# Altium integrated library TI Logic Flip-Flop.IntLib: 904 symbols (part 3 of 21)
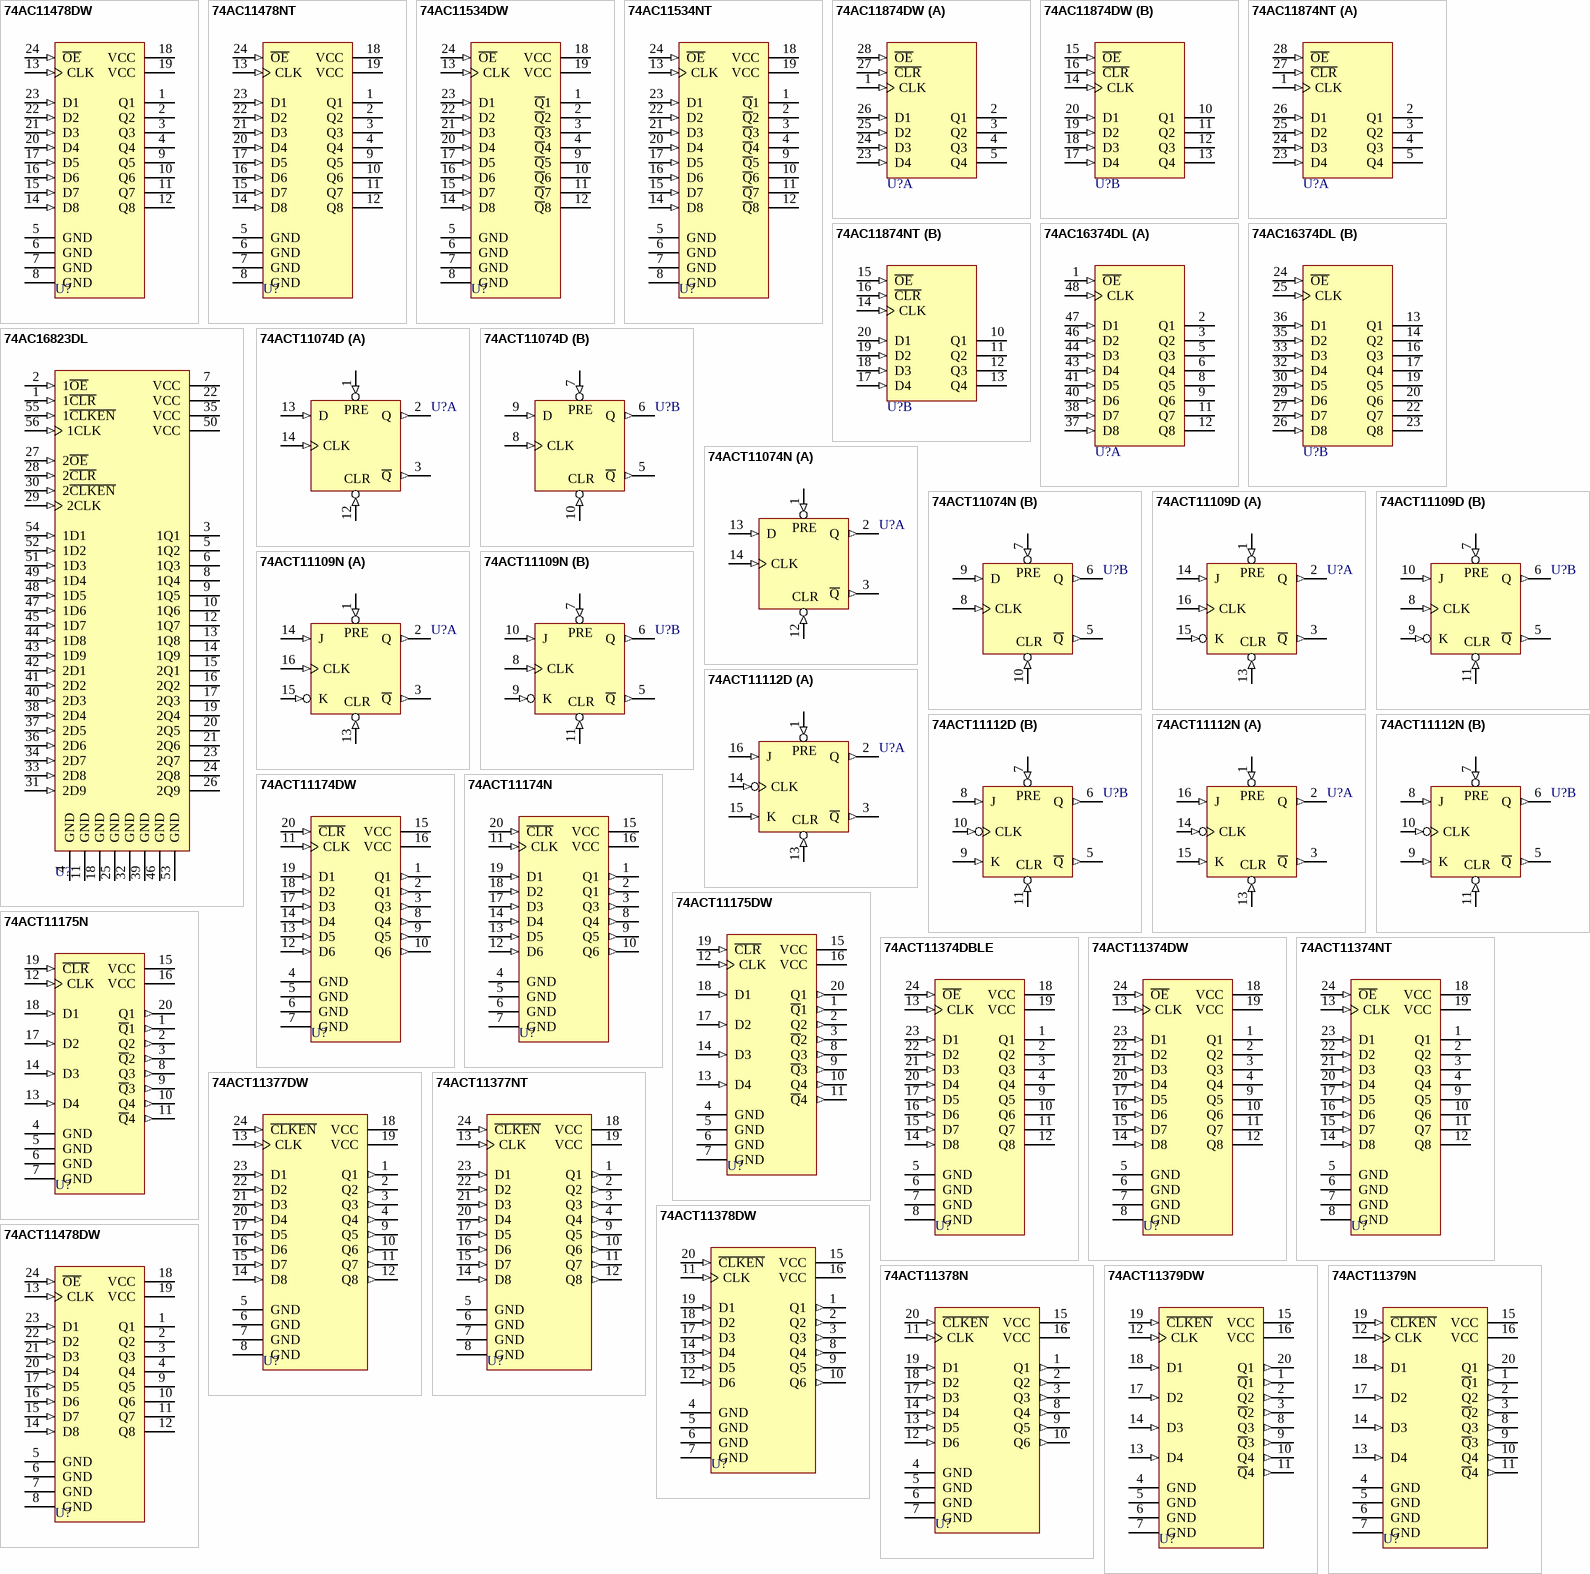
[diagram p37: symbols 74AC11478DW to 74ACT11478DW]

## 74ACT11174N
designator U?
HEX D-Type Flip-Flop with Clear; ComponentAvailability: Obsolete; Published: 8-Jun-2000; LatestRevisionDate: 04-Mar-2005; LatestRevisionNote: Stylized 3D Model Added.; DatasheetVersion: Apr-1993; PackageVersion: Oct-1995; PackageReference: N020; Publisher: Altium Limited; PackageDescription: DIP; 20 Leads; Row Spacing 7.62 mm; Pitch 2.54 mm; ComponentLink1Description: Manufacturer Link; ComponentLink1URL: http://www.ti.com/; ComponentLink2Description: Datasheet; ComponentLink2URL: http://www-s.ti.com/sc/ds/74act11174.pdf; ComponentLink3Description: Discontinuation Notice; ComponentLink3URL: http://focus.ti.com/docs/prod/folders/print/74act11174.html
footprint N020 (DIP; 20 Leads; Row Spacing 7.62 mm; Pitch 2.54 mm)
3D model J020 (DIP; 20 Leads; Row Spacing 7.62 mm; Pitch 2.54 mm)
signal-integrity model 74ACT11174N
pins: 1 Q1 (out), 2 Q1 (out), 3 Q3 (out), 4 GND (power), 5 GND (power), 6 GND (power), 7 GND (power), 8 Q4 (out), 9 Q5 (out), 10 Q6 (out), 11 CLK (in), 12 D6 (in), 13 D5 (in), 14 D4 (in), 15 VCC (power), 16 VCC (power), 17 D3 (in), 18 D2 (in), 19 D1 (in), 20 ~{CLR} (in)

## 74ACT11175DW
designator U?
Quadruple D-Type Flip-Flop with Clear; ComponentAvailability: Obsolete; Published: 8-Jun-2000; LatestRevisionDate: 13-Apr-2006; LatestRevisionNote: IPC-7351 Footprint Added.; DatasheetVersion: Apr-1993; PackageVersion: Mar-2000; PackageReference: DW020; Publisher: Altium Limited; PackageDescription: 20-Pin Plastic Small Outline Integrated Circuit 1.27 mm Pitch; Code_JEDEC: MS-013; Code_IPC: SOIC127P1030-20; ComponentLink1Description: Manufacturer Link; ComponentLink1URL: http://www.ti.com/; ComponentLink2Description: Datasheet; ComponentLink2URL: http://www-s.ti.com/sc/ds/74act11175.pdf; ComponentLink3Description: Discontinuation Notice; ComponentLink3URL: http://focus.ti.com/docs/prod/folders/print/74act11175.html
footprint DW020_N (SOIC, 20-Leads, Body 12.8x7.5mm, Pitch 1.27mm, IPC Medium Density)
footprint DW020_L (SOIC, 20-Leads, Body 12.8x7.5mm, Pitch 1.27mm, IPC High Density)
footprint DW020_M (SOIC, 20-Leads, Body 12.8x7.5mm, Pitch 1.27mm, IPC Low Density)
3D model DW020 (20-Pin Plastic Small Outline Integrated Circuit 1.27 mm Pitch)
signal-integrity model 74ACT11175DW
pins: 1 ~{Q}1 (out), 2 Q2 (out), 3 ~{Q}2 (out), 4 GND (power), 5 GND (power), 6 GND (power), 7 GND (power), 8 Q3 (out), 9 ~{Q}3 (out), 10 Q4 (out), 11 ~{Q}4 (out), 12 CLK (in), 13 D4 (in), 14 D3 (in), 15 VCC (power), 16 VCC (power), 17 D2 (in), 18 D1 (in), 19 ~{CLR} (in), 20 Q1 (out)

## 74ACT11175N
designator U?
Quadruple D-Type Flip-Flop with Clear; ComponentAvailability: Obsolete; Published: 8-Jun-2000; LatestRevisionDate: 04-Mar-2005; LatestRevisionNote: Stylized 3D Model Added.; DatasheetVersion: Apr-1993; PackageVersion: Oct-1995; PackageReference: N020; Publisher: Altium Limited; PackageDescription: DIP; 20 Leads; Row Spacing 7.62 mm; Pitch 2.54 mm; ComponentLink1Description: Manufacturer Link; ComponentLink1URL: http://www.ti.com/; ComponentLink2Description: Datasheet; ComponentLink2URL: http://www-s.ti.com/sc/ds/74act11175.pdf; ComponentLink3Description: Discontinuation Notice; ComponentLink3URL: http://focus.ti.com/docs/prod/folders/print/74act11175.html
footprint N020 (DIP; 20 Leads; Row Spacing 7.62 mm; Pitch 2.54 mm)
3D model J020 (DIP; 20 Leads; Row Spacing 7.62 mm; Pitch 2.54 mm)
signal-integrity model 74ACT11175N
pins: 1 ~{Q}1 (out), 2 Q2 (out), 3 ~{Q}2 (out), 4 GND (power), 5 GND (power), 6 GND (power), 7 GND (power), 8 Q3 (out), 9 ~{Q}3 (out), 10 Q4 (out), 11 ~{Q}4 (out), 12 CLK (in), 13 D4 (in), 14 D3 (in), 15 VCC (power), 16 VCC (power), 17 D2 (in), 18 D1 (in), 19 ~{CLR} (in), 20 Q1 (out)

## 74ACT11374DBLE
designator U?
Octal Edge-Triggered D-Type Flip-Flop with 3-State Outputs; ComponentAvailability: Obsolete; Published: 8-Jun-2000; LatestRevisionDate: 04-Mar-2005; LatestRevisionNote: Stylized 3D Model Added.; DatasheetVersion: Apr-1996; PackageVersion: May-1999; PackageReference: DB024; Publisher: Altium Limited; PackageDescription: SSOP, Plastic; 24 Leads; Body Width 5.3 mm; Pitch 0.65 mm; Code_JEDEC: MO-150-AG; ComponentLink1Description: Manufacturer Link; ComponentLink1URL: http://www.ti.com/; ComponentLink2Description: Datasheet; ComponentLink2URL: http://www-s.ti.com/sc/ds/74act11374.pdf
footprint DB024 (SSOP, Plastic; 24 Leads; Body Width 5.3 mm; Pitch 0.65 mm)
3D model DB024 (SSOP, Plastic; 24 Leads; Body Width 5.3 mm; Pitch 0.65 mm)
signal-integrity model 74ACT11374DBLE
pins: 1 Q1 (hiz), 2 Q2 (hiz), 3 Q3 (hiz), 4 Q4 (hiz), 5 GND (power), 6 GND (power), 7 GND (power), 8 GND (power), 9 Q5 (hiz), 10 Q6 (hiz), 11 Q7 (hiz), 12 Q8 (hiz), 13 CLK (in), 14 D8 (in), 15 D7 (in), 16 D6 (in), 17 D5 (in), 18 VCC (power), 19 VCC (power), 20 D4 (in), 21 D3 (in), 22 D2 (in), 23 D1 (in), 24 ~{OE} (in)

## 74ACT11374DW
designator U?
Octal Edge-Triggered D-Type Flip-Flop with 3-State Outputs; Published: 8-Jun-2000; LatestRevisionDate: 13-Apr-2006; LatestRevisionNote: IPC-7351 Footprint Added.; DatasheetVersion: Apr-1996; PackageVersion: Mar-2000; PackageReference: DW024; Publisher: Altium Limited; PackageDescription: 24-Pin Plastic Small Outline Integrated Circuit 1.27 mm Pitch; Code_JEDEC: MS-013; ComponentLink1Description: Manufacturer Link; ComponentLink1URL: http://www.ti.com/; ComponentLink2Description: Datasheet; ComponentLink2URL: http://www-s.ti.com/sc/ds/74act11374.pdf
footprint DW024_N (SOIC, 24-Leads, Body 15.4x7.5mm, Pitch 1.27mm, IPC Medium Density)
footprint DW024_L (SOIC, 24-Leads, Body 15.4x7.5mm, Pitch 1.27mm, IPC High Density)
footprint DW024_M (SOIC, 24-Leads, Body 15.4x7.5mm, Pitch 1.27mm, IPC Low Density)
3D model DW024 (24-Pin Plastic Small Outline Integrated Circuit 1.27 mm Pitch)
signal-integrity model 74ACT11374DW
pins: 1 Q1 (hiz), 2 Q2 (hiz), 3 Q3 (hiz), 4 Q4 (hiz), 5 GND (power), 6 GND (power), 7 GND (power), 8 GND (power), 9 Q5 (hiz), 10 Q6 (hiz), 11 Q7 (hiz), 12 Q8 (hiz), 13 CLK (in), 14 D8 (in), 15 D7 (in), 16 D6 (in), 17 D5 (in), 18 VCC (power), 19 VCC (power), 20 D4 (in), 21 D3 (in), 22 D2 (in), 23 D1 (in), 24 ~{OE} (in)

## 74ACT11374NT
designator U?
Octal Edge-Triggered D-Type Flip-Flop with 3-State Outputs; Published: 8-Jun-2000; LatestRevisionDate: 04-Mar-2005; LatestRevisionNote: Stylized 3D Model Added.; DatasheetVersion: Apr-1996; PackageVersion: Oct-1994; PackageReference: NT024; Publisher: Altium Limited; PackageDescription: DIP; 24 Leads; Row Spacing 7.62 mm; Pitch 2.54 mm; Code_JEDEC: MS-001-AF; ComponentLink1Description: Manufacturer Link; ComponentLink1URL: http://www.ti.com/; ComponentLink2Description: Datasheet; ComponentLink2URL: http://www-s.ti.com/sc/ds/74act11374.pdf
footprint NT024 (DIP; 24 Leads; Row Spacing 7.62 mm; Pitch 2.54 mm)
3D model JT024 (DIP; 24 Leads; Row Spacing 7.62 mm; Pitch 2.54 mm)
signal-integrity model 74ACT11374NT
pins: 1 Q1 (hiz), 2 Q2 (hiz), 3 Q3 (hiz), 4 Q4 (hiz), 5 GND (power), 6 GND (power), 7 GND (power), 8 GND (power), 9 Q5 (hiz), 10 Q6 (hiz), 11 Q7 (hiz), 12 Q8 (hiz), 13 CLK (in), 14 D8 (in), 15 D7 (in), 16 D6 (in), 17 D5 (in), 18 VCC (power), 19 VCC (power), 20 D4 (in), 21 D3 (in), 22 D2 (in), 23 D1 (in), 24 ~{OE} (in)

## 74ACT11377DW
designator U?
Octal D-Type Flip-Flop with Clock Enable; ComponentAvailability: Obsolete; Published: 8-Jun-2000; LatestRevisionDate: 13-Apr-2006; LatestRevisionNote: IPC-7351 Footprint Added.; DatasheetVersion: Apr-1993; PackageVersion: Mar-2000; PackageReference: DW024; Publisher: Altium Limited; PackageDescription: 24-Pin Plastic Small Outline Integrated Circuit 1.27 mm Pitch; Code_JEDEC: MS-013; ComponentLink1Description: Manufacturer Link; ComponentLink1URL: http://www.ti.com/; ComponentLink2Description: Datasheet; ComponentLink2URL: http://www-s.ti.com/sc/ds/74act11377.pdf; ComponentLink3Description: Discontinuation Notice; ComponentLink3URL: http://focus.ti.com/docs/prod/folders/print/74act11377.html
footprint DW024_N (SOIC, 24-Leads, Body 15.4x7.5mm, Pitch 1.27mm, IPC Medium Density)
footprint DW024_L (SOIC, 24-Leads, Body 15.4x7.5mm, Pitch 1.27mm, IPC High Density)
footprint DW024_M (SOIC, 24-Leads, Body 15.4x7.5mm, Pitch 1.27mm, IPC Low Density)
3D model DW024 (24-Pin Plastic Small Outline Integrated Circuit 1.27 mm Pitch)
signal-integrity model 74ACT11377DW
pins: 1 Q1 (out), 2 Q2 (out), 3 Q3 (out), 4 Q4 (out), 5 GND (power), 6 GND (power), 7 GND (power), 8 GND (power), 9 Q5 (out), 10 Q6 (out), 11 Q7 (out), 12 Q8 (out), 13 CLK (in), 14 D8 (in), 15 D7 (in), 16 D6 (in), 17 D5 (in), 18 VCC (power), 19 VCC (power), 20 D4 (in), 21 D3 (in), 22 D2 (in), 23 D1 (in), 24 ~{CLKEN} (in)

## 74ACT11377NT
designator U?
Octal D-Type Flip-Flop with Clock Enable; ComponentAvailability: Obsolete; Published: 8-Jun-2000; LatestRevisionDate: 04-Mar-2005; LatestRevisionNote: Stylized 3D Model Added.; DatasheetVersion: Apr-1993; PackageVersion: Oct-1994; PackageReference: NT024; Publisher: Altium Limited; PackageDescription: DIP; 24 Leads; Row Spacing 7.62 mm; Pitch 2.54 mm; Code_JEDEC: MS-001-AF; ComponentLink1Description: Manufacturer Link; ComponentLink1URL: http://www.ti.com/; ComponentLink2Description: Datasheet; ComponentLink2URL: http://www-s.ti.com/sc/ds/74act11377.pdf; ComponentLink3Description: Discontinuation Notice; ComponentLink3URL: http://focus.ti.com/docs/prod/folders/print/74act11377.html
footprint NT024 (DIP; 24 Leads; Row Spacing 7.62 mm; Pitch 2.54 mm)
3D model JT024 (DIP; 24 Leads; Row Spacing 7.62 mm; Pitch 2.54 mm)
signal-integrity model 74ACT11377NT
pins: 1 Q1 (out), 2 Q2 (out), 3 Q3 (out), 4 Q4 (out), 5 GND (power), 6 GND (power), 7 GND (power), 8 GND (power), 9 Q5 (out), 10 Q6 (out), 11 Q7 (out), 12 Q8 (out), 13 CLK (in), 14 D8 (in), 15 D7 (in), 16 D6 (in), 17 D5 (in), 18 VCC (power), 19 VCC (power), 20 D4 (in), 21 D3 (in), 22 D2 (in), 23 D1 (in), 24 ~{CLKEN} (in)

## 74ACT11378DW
designator U?
Hex D-Type Flip-Flop with Clock Enable; ComponentAvailability: Obsolete; Published: 8-Jun-2000; LatestRevisionDate: 13-Apr-2006; LatestRevisionNote: IPC-7351 Footprint Added.; DatasheetVersion: Apr-1993; PackageVersion: Mar-2000; PackageReference: DW020; Publisher: Altium Limited; PackageDescription: 20-Pin Plastic Small Outline Integrated Circuit 1.27 mm Pitch; Code_JEDEC: MS-013; Code_IPC: SOIC127P1030-20; ComponentLink1Description: Manufacturer Link; ComponentLink1URL: http://www.ti.com/; ComponentLink2Description: Datasheet; ComponentLink2URL: http://www-s.ti.com/sc/ds/74act11378.pdf
footprint DW020_N (SOIC, 20-Leads, Body 12.8x7.5mm, Pitch 1.27mm, IPC Medium Density)
footprint DW020_L (SOIC, 20-Leads, Body 12.8x7.5mm, Pitch 1.27mm, IPC High Density)
footprint DW020_M (SOIC, 20-Leads, Body 12.8x7.5mm, Pitch 1.27mm, IPC Low Density)
3D model DW020 (20-Pin Plastic Small Outline Integrated Circuit 1.27 mm Pitch)
signal-integrity model 74ACT11378DW
pins: 1 Q1 (out), 2 Q2 (out), 3 Q3 (out), 4 GND (power), 5 GND (power), 6 GND (power), 7 GND (power), 8 Q4 (out), 9 Q5 (out), 10 Q6 (out), 11 CLK (in), 12 D6 (in), 13 D5 (in), 14 D4 (in), 15 VCC (power), 16 VCC (power), 17 D3 (in), 18 D2 (in), 19 D1 (in), 20 ~{CLKEN} (in)

## 74ACT11378N
designator U?
Hex D-Type Flip-Flop with Clock Enable; ComponentAvailability: Obsolete; Published: 8-Jun-2000; LatestRevisionDate: 04-Mar-2005; LatestRevisionNote: Stylized 3D Model Added.; DatasheetVersion: Apr-1993; PackageVersion: Oct-1995; PackageReference: N020; Publisher: Altium Limited; PackageDescription: DIP; 20 Leads; Row Spacing 7.62 mm; Pitch 2.54 mm; ComponentLink1Description: Manufacturer Link; ComponentLink1URL: http://www.ti.com/; ComponentLink2Description: Datasheet; ComponentLink2URL: http://www-s.ti.com/sc/ds/74act11378.pdf
footprint N020 (DIP; 20 Leads; Row Spacing 7.62 mm; Pitch 2.54 mm)
3D model J020 (DIP; 20 Leads; Row Spacing 7.62 mm; Pitch 2.54 mm)
signal-integrity model 74ACT11378N
pins: 1 Q1 (out), 2 Q2 (out), 3 Q3 (out), 4 GND (power), 5 GND (power), 6 GND (power), 7 GND (power), 8 Q4 (out), 9 Q5 (out), 10 Q6 (out), 11 CLK (in), 12 D6 (in), 13 D5 (in), 14 D4 (in), 15 VCC (power), 16 VCC (power), 17 D3 (in), 18 D2 (in), 19 D1 (in), 20 ~{CLKEN} (in)

## 74ACT11379DW
designator U?
Quadruple D-Type Flip-Flop with Clock Enable; ComponentAvailability: Obsolete; Published: 8-Jun-2000; LatestRevisionDate: 13-Apr-2006; LatestRevisionNote: IPC-7351 Footprint Added.; DatasheetVersion: Apr-1993; PackageVersion: Mar-2000; PackageReference: DW020; Publisher: Altium Limited; PackageDescription: 20-Pin Plastic Small Outline Integrated Circuit 1.27 mm Pitch; Code_JEDEC: MS-013; Code_IPC: SOIC127P1030-20; ComponentLink1Description: Manufacturer Link; ComponentLink1URL: http://www.ti.com/; ComponentLink2Description: Datasheet; ComponentLink2URL: http://www-s.ti.com/sc/ds/74act11379.pdf
footprint DW020_N (SOIC, 20-Leads, Body 12.8x7.5mm, Pitch 1.27mm, IPC Medium Density)
footprint DW020_L (SOIC, 20-Leads, Body 12.8x7.5mm, Pitch 1.27mm, IPC High Density)
footprint DW020_M (SOIC, 20-Leads, Body 12.8x7.5mm, Pitch 1.27mm, IPC Low Density)
3D model DW020 (20-Pin Plastic Small Outline Integrated Circuit 1.27 mm Pitch)
signal-integrity model 74ACT11379DW
pins: 1 ~{Q}1 (out), 2 Q2 (out), 3 ~{Q}2 (out), 4 GND (power), 5 GND (power), 6 GND (power), 7 GND (power), 8 Q3 (out), 9 ~{Q}3 (out), 10 Q4 (out), 11 ~{Q}4 (out), 12 CLK (in), 13 D4 (in), 14 D3 (in), 15 VCC (power), 16 VCC (power), 17 D2 (in), 18 D1 (in), 19 ~{CLKEN} (in), 20 Q1 (out)

## 74ACT11379N
designator U?
Quadruple D-Type Flip-Flop with Clock Enable; ComponentAvailability: Obsolete; Published: 8-Jun-2000; LatestRevisionDate: 04-Mar-2005; LatestRevisionNote: Stylized 3D Model Added.; DatasheetVersion: Apr-1993; PackageVersion: Oct-1995; PackageReference: N020; Publisher: Altium Limited; PackageDescription: DIP; 20 Leads; Row Spacing 7.62 mm; Pitch 2.54 mm; ComponentLink1Description: Manufacturer Link; ComponentLink1URL: http://www.ti.com/; ComponentLink2Description: Datasheet; ComponentLink2URL: http://www-s.ti.com/sc/ds/74act11379.pdf
footprint N020 (DIP; 20 Leads; Row Spacing 7.62 mm; Pitch 2.54 mm)
3D model J020 (DIP; 20 Leads; Row Spacing 7.62 mm; Pitch 2.54 mm)
signal-integrity model 74ACT11379N
pins: 1 ~{Q}1 (out), 2 Q2 (out), 3 ~{Q}2 (out), 4 GND (power), 5 GND (power), 6 GND (power), 7 GND (power), 8 Q3 (out), 9 ~{Q}3 (out), 10 Q4 (out), 11 ~{Q}4 (out), 12 CLK (in), 13 D4 (in), 14 D3 (in), 15 VCC (power), 16 VCC (power), 17 D2 (in), 18 D1 (in), 19 ~{CLKEN} (in), 20 Q1 (out)

## 74ACT11478DW
designator U?
Metastable-Resistant Octal D-Type Dual-Rank Flip-Flop with 3-State Outputs; ComponentAvailability: Obsolete; Published: 8-Jun-2000; LatestRevisionDate: 13-Apr-2006; LatestRevisionNote: IPC-7351 Footprint Added.; DatasheetVersion: Apr-1993; PackageVersion: Mar-2000; PackageReference: DW024; Publisher: Altium Limited; PackageDescription: 24-Pin Plastic Small Outline Integrated Circuit 1.27 mm Pitch; Code_JEDEC: MS-013; ComponentLink1Description: Manufacturer Link; ComponentLink1URL: http://www.ti.com/; ComponentLink2Description: Datasheet; ComponentLink2URL: http://www-s.ti.com/sc/ds/74act11478.pdf
footprint DW024_N (SOIC, 24-Leads, Body 15.4x7.5mm, Pitch 1.27mm, IPC Medium Density)
footprint DW024_L (SOIC, 24-Leads, Body 15.4x7.5mm, Pitch 1.27mm, IPC High Density)
footprint DW024_M (SOIC, 24-Leads, Body 15.4x7.5mm, Pitch 1.27mm, IPC Low Density)
3D model DW024 (24-Pin Plastic Small Outline Integrated Circuit 1.27 mm Pitch)
signal-integrity model 74ACT11478DW
pins: 1 Q1 (hiz), 2 Q2 (hiz), 3 Q3 (hiz), 4 Q4 (hiz), 5 GND (power), 6 GND (power), 7 GND (power), 8 GND (power), 9 Q5 (hiz), 10 Q6 (hiz), 11 Q7 (hiz), 12 Q8 (hiz), 13 CLK (in), 14 D8 (in), 15 D7 (in), 16 D6 (in), 17 D5 (in), 18 VCC (power), 19 VCC (power), 20 D4 (in), 21 D3 (in), 22 D2 (in), 23 D1 (in), 24 ~{OE} (in)

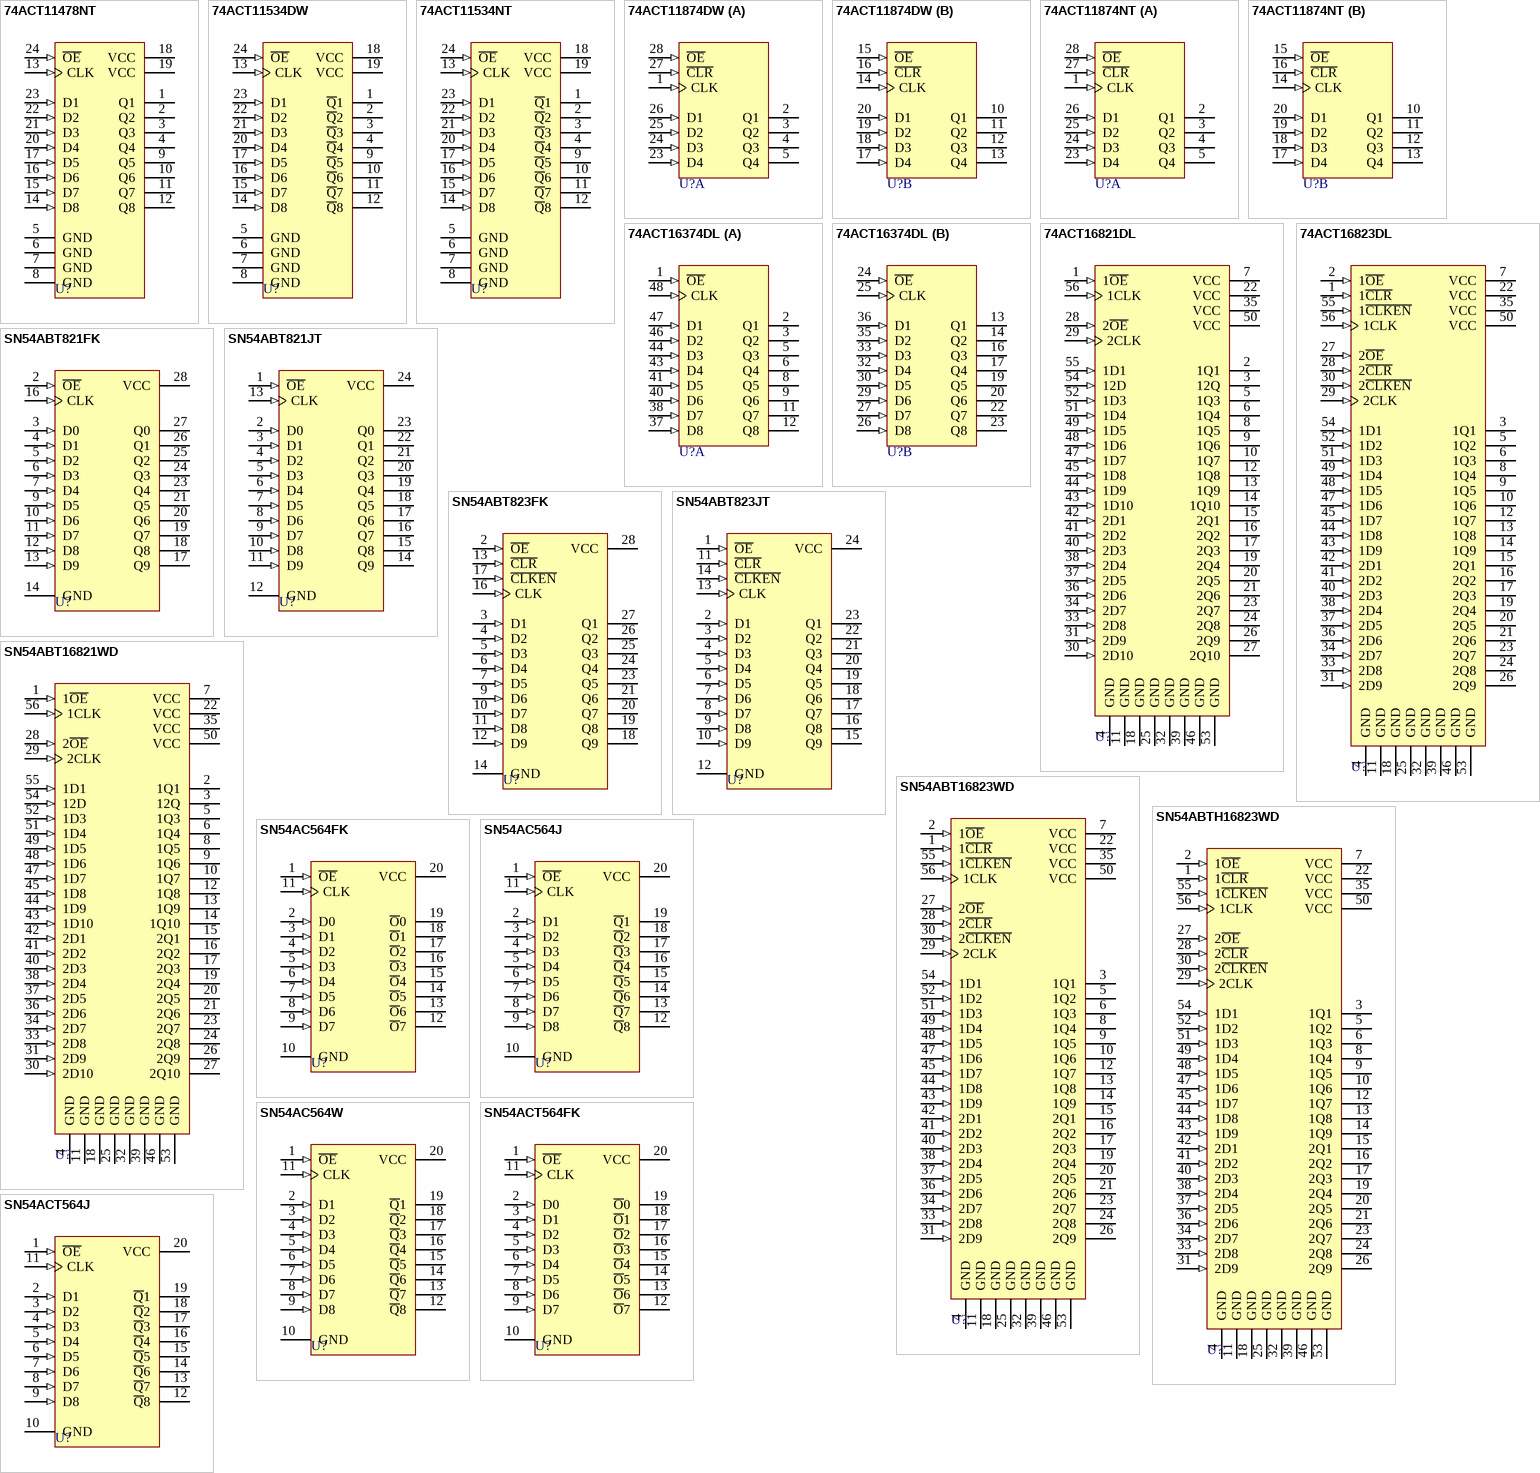
[diagram p4: symbols 74ACT11478NT to SN54ACT564J]

## 74ACT11478NT
designator U?
Metastable-Resistant Octal D-Type Dual-Rank Flip-Flop with 3-State Outputs; ComponentAvailability: Obsolete; Published: 8-Jun-2000; LatestRevisionDate: 04-Mar-2005; LatestRevisionNote: Stylized 3D Model Added.; DatasheetVersion: Apr-1993; PackageVersion: Oct-1994; PackageReference: NT024; Publisher: Altium Limited; PackageDescription: DIP; 24 Leads; Row Spacing 7.62 mm; Pitch 2.54 mm; Code_JEDEC: MS-001-AF; ComponentLink1Description: Manufacturer Link; ComponentLink1URL: http://www.ti.com/; ComponentLink2Description: Datasheet; ComponentLink2URL: http://www-s.ti.com/sc/ds/74act11478.pdf
footprint NT024 (DIP; 24 Leads; Row Spacing 7.62 mm; Pitch 2.54 mm)
3D model JT024 (DIP; 24 Leads; Row Spacing 7.62 mm; Pitch 2.54 mm)
signal-integrity model 74ACT11478NT
pins: 1 Q1 (hiz), 2 Q2 (hiz), 3 Q3 (hiz), 4 Q4 (hiz), 5 GND (power), 6 GND (power), 7 GND (power), 8 GND (power), 9 Q5 (hiz), 10 Q6 (hiz), 11 Q7 (hiz), 12 Q8 (hiz), 13 CLK (in), 14 D8 (in), 15 D7 (in), 16 D6 (in), 17 D5 (in), 18 VCC (power), 19 VCC (power), 20 D4 (in), 21 D3 (in), 22 D2 (in), 23 D1 (in), 24 ~{OE} (in)

## 74ACT11534DW
designator U?
Octal D-Type Edge-Triggered  Flip-Flop with 3-State Outputs; ComponentAvailability: Obsolete; Published: 8-Jun-2000; LatestRevisionDate: 13-Apr-2006; LatestRevisionNote: IPC-7351 Footprint Added.; DatasheetVersion: Apr-1993; PackageVersion: Mar-2000; PackageReference: DW024; Publisher: Altium Limited; PackageDescription: 24-Pin Plastic Small Outline Integrated Circuit 1.27 mm Pitch; Code_JEDEC: MS-013; ComponentLink1Description: Manufacturer Link; ComponentLink1URL: http://www.ti.com/; ComponentLink2Description: Datasheet; ComponentLink2URL: http://www-s.ti.com/sc/ds/74act11534.pdf; ComponentLink3Description: Discontinuation Notice; ComponentLink3URL: http://focus.ti.com/docs/prod/folders/print/74act11534.html
footprint DW024_N (SOIC, 24-Leads, Body 15.4x7.5mm, Pitch 1.27mm, IPC Medium Density)
footprint DW024_L (SOIC, 24-Leads, Body 15.4x7.5mm, Pitch 1.27mm, IPC High Density)
footprint DW024_M (SOIC, 24-Leads, Body 15.4x7.5mm, Pitch 1.27mm, IPC Low Density)
3D model DW024 (24-Pin Plastic Small Outline Integrated Circuit 1.27 mm Pitch)
signal-integrity model 74ACT11534DW
pins: 1 ~{Q}1 (hiz), 2 ~{Q}2 (hiz), 3 ~{Q}3 (hiz), 4 ~{Q}4 (hiz), 5 GND (power), 6 GND (power), 7 GND (power), 8 GND (power), 9 ~{Q}5 (hiz), 10 ~{Q}6 (hiz), 11 ~{Q}7 (hiz), 12 ~{Q}8 (hiz), 13 CLK (in), 14 D8 (in), 15 D7 (in), 16 D6 (in), 17 D5 (in), 18 VCC (power), 19 VCC (power), 20 D4 (in), 21 D3 (in), 22 D2 (in), 23 D1 (in), 24 ~{OE} (in)

## 74ACT11534NT
designator U?
Octal D-Type Edge-Triggered  Flip-Flop with 3-State Outputs; ComponentAvailability: Obsolete; Published: 8-Jun-2000; LatestRevisionDate: 04-Mar-2005; LatestRevisionNote: Stylized 3D Model Added.; DatasheetVersion: Apr-1993; PackageVersion: Oct-1994; PackageReference: NT024; Publisher: Altium Limited; PackageDescription: DIP; 24 Leads; Row Spacing 7.62 mm; Pitch 2.54 mm; Code_JEDEC: MS-001-AF; ComponentLink1Description: Manufacturer Link; ComponentLink1URL: http://www.ti.com/; ComponentLink2Description: Datasheet; ComponentLink2URL: http://www-s.ti.com/sc/ds/74act11534.pdf; ComponentLink3Description: Discontinuation Notice; ComponentLink3URL: http://focus.ti.com/docs/prod/folders/print/74act11534.html
footprint NT024 (DIP; 24 Leads; Row Spacing 7.62 mm; Pitch 2.54 mm)
3D model JT024 (DIP; 24 Leads; Row Spacing 7.62 mm; Pitch 2.54 mm)
signal-integrity model 74ACT11534NT
pins: 1 ~{Q}1 (hiz), 2 ~{Q}2 (hiz), 3 ~{Q}3 (hiz), 4 ~{Q}4 (hiz), 5 GND (power), 6 GND (power), 7 GND (power), 8 GND (power), 9 ~{Q}5 (hiz), 10 ~{Q}6 (hiz), 11 ~{Q}7 (hiz), 12 ~{Q}8 (hiz), 13 CLK (in), 14 D8 (in), 15 D7 (in), 16 D6 (in), 17 D5 (in), 18 VCC (power), 19 VCC (power), 20 D4 (in), 21 D3 (in), 22 D2 (in), 23 D1 (in), 24 ~{OE} (in)

## 74ACT11874DW
designator U?
Dual 4-Bit D-Type Edge-Triggered Flip-Flop with 3-State Outputs; ComponentAvailability: Obsolete; Published: 8-Jun-2000; LatestRevisionDate: 13-Apr-2006; LatestRevisionNote: IPC-7351 Footprint Added.; DatasheetVersion: Apr-1993; PackageVersion: Mar-2000; PackageReference: DW028; Publisher: Altium Limited; PackageDescription: 28-Pin Plastic Small Outline Integrated Circuit 1.27 mm Pitch; Code_JEDEC: MS-013; ComponentLink1Description: Manufacturer Link; ComponentLink1URL: http://www.ti.com/; ComponentLink2Description: Datasheet; ComponentLink2URL: http://www-s.ti.com/sc/ds/74act11874.pdf; ComponentLink3Description: Discontinuation Notice; ComponentLink3URL: http://focus.ti.com/docs/prod/folders/print/74act11874.html
footprint DW028_N (SOIC, 28-Leads, Body 17.9x7.5mm, Pitch 1.27mm, IPC Medium Density)
footprint DW028_L (SOIC, 28-Leads, Body 17.9x7.5mm, Pitch 1.27mm, IPC High Density)
footprint DW028_M (SOIC, 28-Leads, Body 17.9x7.5mm, Pitch 1.27mm, IPC Low Density)
3D model DW028 (28-Pin Plastic Small Outline Integrated Circuit 1.27 mm Pitch)
signal-integrity model 74ACT11874DW
pins on every part: 6 GND (power) hidden to GND, 7 GND (power) hidden to GND, 8 GND (power) hidden to GND, 9 GND (power) hidden to GND, 21 VCC (power) hidden to VCC, 22 VCC (power) hidden to VCC
part A pins: 1 CLK (in), 2 Q1 (hiz), 3 Q2 (hiz), 4 Q3 (hiz), 5 Q4 (hiz), 23 D4 (in), 24 D3 (in), 25 D2 (in), 26 D1 (in), 27 ~{CLR} (in), 28 ~{OE} (in)
part B pins: 10 Q1 (hiz), 11 Q2 (hiz), 12 Q3 (hiz), 13 Q4 (hiz), 14 CLK (in), 15 ~{OE} (in), 16 ~{CLR} (in), 17 D4 (in), 18 D3 (in), 19 D2 (in), 20 D1 (in)

## 74ACT11874NT
designator U?
Dual 4-Bit D-Type Edge-Triggered Flip-Flop with 3-State Outputs; ComponentAvailability: Obsolete; Published: 8-Jun-2000; LatestRevisionDate: 04-Mar-2005; LatestRevisionNote: Stylized 3D Model Added.; DatasheetVersion: Oct-1990; PackageVersion: Oct-1994; PackageReference: NT028; Publisher: Altium Limited; PackageDescription: DIP; 28 Leads; Row Spacing 7.62 mm; Pitch 2.54 mm; ComponentLink1Description: Manufacturer Link; ComponentLink1URL: http://www.ti.com/; ComponentLink2Description: Datasheet; ComponentLink2URL: http://www-s.ti.com/sc/ds/74act11874.pdf; ComponentLink3Description: Discontinuation Notice; ComponentLink3URL: http://focus.ti.com/docs/prod/folders/print/74act11874.html
footprint NT028 (DIP; 28 Leads; Row Spacing 7.62 mm; Pitch 2.54 mm)
3D model NT028 (DIP; 28 Leads; Row Spacing 7.62 mm; Pitch 2.54 mm)
signal-integrity model 74ACT11874NT
pins on every part: 6 GND (power) hidden to GND, 7 GND (power) hidden to GND, 8 GND (power) hidden to GND, 9 GND (power) hidden to GND, 21 VCC (power) hidden to VCC, 22 VCC (power) hidden to VCC
part A pins: 1 CLK (in), 2 Q1 (hiz), 3 Q2 (hiz), 4 Q3 (hiz), 5 Q4 (hiz), 23 D4 (in), 24 D3 (in), 25 D2 (in), 26 D1 (in), 27 ~{CLR} (in), 28 ~{OE} (in)
part B pins: 10 Q1 (hiz), 11 Q2 (hiz), 12 Q3 (hiz), 13 Q4 (hiz), 14 CLK (in), 15 ~{OE} (in), 16 ~{CLR} (in), 17 D4 (in), 18 D3 (in), 19 D2 (in), 20 D1 (in)

## 74ACT16374DL
designator U?
16-Bit D-Type Edge-Triggered Flip-Flop with 3-State Outputs; Published: 8-Jun-2000; LatestRevisionDate: 04-Mar-2005; LatestRevisionNote: Stylized 3D Model Added.; DatasheetVersion: Apr-1996; PackageVersion: Dec-2001; PackageReference: DL048; Publisher: Altium Limited; PackageDescription: SSOP; 48 Leads; Body Width 7.5 mm; Pitch 0.635 mm; Code_JEDEC: MO-118-AA; Code_IPC: SSO48; ComponentLink1Description: Manufacturer Link; ComponentLink1URL: http://www.ti.com/; ComponentLink2Description: Datasheet; ComponentLink2URL: http://www-s.ti.com/sc/ds/74act16374.pdf
footprint DL048 (SSOP; 48 Leads; Body Width 7.5 mm; Pitch 0.635 mm)
3D model DL048 (SSOP; 48 Leads; Body Width 7.5 mm; Pitch 0.635 mm)
signal-integrity model 74ACT16374DL
pins on every part: 4 GND (power) hidden to GND, 7 VCC (power) hidden to VCC, 10 GND (power) hidden to GND, 15 GND (power) hidden to GND, 18 VCC (power) hidden to VCC, 21 GND (power) hidden to GND, 28 GND (power) hidden to GND, 31 VCC (power) hidden to VCC, 34 GND (power) hidden to GND, 39 GND (power) hidden to GND, 42 VCC (power) hidden to VCC, 45 GND (power) hidden to GND
part A pins: 1 ~{OE} (in), 2 Q1 (hiz), 3 Q2 (hiz), 5 Q3 (hiz), 6 Q4 (hiz), 8 Q5 (hiz), 9 Q6 (hiz), 11 Q7 (hiz), 12 Q8 (hiz), 37 D8 (in), 38 D7 (in), 40 D6 (in), 41 D5 (in), 43 D4 (in), 44 D3 (in), 46 D2 (in), 47 D1 (in), 48 CLK (in)
part B pins: 13 Q1 (hiz), 14 Q2 (hiz), 16 Q3 (hiz), 17 Q4 (hiz), 19 Q5 (hiz), 20 Q6 (hiz), 22 Q7 (hiz), 23 Q8 (hiz), 24 ~{OE} (in), 25 CLK (in), 26 D8 (in), 27 D7 (in), 29 D6 (in), 30 D5 (in), 32 D4 (in), 33 D3 (in), 35 D2 (in), 36 D1 (in)

## 74ACT16821DL
designator U?
20-Bit Bus-Interface Flip-Flop with 3-State Outputs; ComponentAvailability: Obsolete; Published: 8-Jun-2000; LatestRevisionDate: 04-Mar-2005; LatestRevisionNote: Stylized 3D Model Added.; DatasheetVersion: Apr-1996; PackageVersion: Dec-2001; PackageReference: DL056; Publisher: Altium Limited; PackageDescription: SSOP; 56 Leads; Body Width 7.5 mm; Pitch 0.635 mm; Code_JEDEC: MO-118-AB; Code_IPC: SSO56; ComponentLink1Description: Manufacturer Link; ComponentLink1URL: http://www.ti.com/; ComponentLink2Description: Datasheet; ComponentLink2URL: http://www-s.ti.com/sc/ds/74act16821.pdf
footprint DL056 (SSOP; 56 Leads; Body Width 7.5 mm; Pitch 0.635 mm)
3D model DL056 (SSOP; 56 Leads; Body Width 7.5 mm; Pitch 0.635 mm)
signal-integrity model 74ACT16821DL
pins: 1 1~{OE} (in), 2 1Q1 (hiz), 3 12Q (hiz), 4 GND (power), 5 1Q3 (hiz), 6 1Q4 (hiz), 7 VCC (power), 8 1Q5 (hiz), 9 1Q6 (hiz), 10 1Q7 (hiz), 11 GND (power), 12 1Q8 (hiz), 13 1Q9 (hiz), 14 1Q10 (hiz), 15 2Q1 (hiz), 16 2Q2 (hiz), 17 2Q3 (hiz), 18 GND (power), 19 2Q4 (hiz), 20 2Q5 (hiz), 21 2Q6 (hiz), 22 VCC (power), 23 2Q7 (hiz), 24 2Q8 (hiz), 25 GND (power), 26 2Q9 (hiz), 27 2Q10 (hiz), 28 2~{OE} (in), 29 2CLK (in), 30 2D10 (in), 31 2D9 (in), 32 GND (power), 33 2D8 (in), 34 2D7 (in), 35 VCC (power), 36 2D6 (in), 37 2D5 (in), 38 2D4 (in), 39 GND (power), 40 2D3 (in), 41 2D2 (in), 42 2D1 (in), 43 1D10 (in), 44 1D9 (in), 45 1D8 (in), 46 GND (power), 47 1D7 (in), 48 1D6 (in), 49 1D5 (in), 50 VCC (power), 51 1D4 (in), 52 1D3 (in), 53 GND (power), 54 12D (in), 55 1D1 (in), 56 1CLK (in)

## 74ACT16823DL
designator U?
18-Bit Bus-Interface Flip-Flop with 3-State Outputs; Published: 8-Jun-2000; LatestRevisionDate: 04-Mar-2005; LatestRevisionNote: Stylized 3D Model Added.; DatasheetVersion: Apr-1996; PackageVersion: Dec-2001; PackageReference: DL056; Publisher: Altium Limited; PackageDescription: SSOP; 56 Leads; Body Width 7.5 mm; Pitch 0.635 mm; Code_JEDEC: MO-118-AB; Code_IPC: SSO56; ComponentLink1Description: Manufacturer Link; ComponentLink1URL: http://www.ti.com/; ComponentLink2Description: Datasheet; ComponentLink2URL: http://www-s.ti.com/sc/ds/74act16823.pdf
footprint DL056 (SSOP; 56 Leads; Body Width 7.5 mm; Pitch 0.635 mm)
3D model DL056 (SSOP; 56 Leads; Body Width 7.5 mm; Pitch 0.635 mm)
signal-integrity model 74ACT16823DL
pins: 1 1~{CLR} (in), 2 1~{OE} (in), 3 1Q1 (hiz), 4 GND (power), 5 1Q2 (hiz), 6 1Q3 (hiz), 7 VCC (power), 8 1Q4 (hiz), 9 1Q5 (hiz), 10 1Q6 (hiz), 11 GND (power), 12 1Q7 (hiz), 13 1Q8 (hiz), 14 1Q9 (hiz), 15 2Q1 (hiz), 16 2Q2 (hiz), 17 2Q3 (hiz), 18 GND (power), 19 2Q4 (hiz), 20 2Q5 (hiz), 21 2Q6 (hiz), 22 VCC (power), 23 2Q7 (hiz), 24 2Q8 (hiz), 25 GND (power), 26 2Q9 (hiz), 27 2~{OE} (in), 28 2~{CLR} (in), 29 2CLK (in), 30 2~{CLKEN} (in), 31 2D9 (in), 32 GND (power), 33 2D8 (in), 34 2D7 (in), 35 VCC (power), 36 2D6 (in), 37 2D5 (in), 38 2D4 (in), 39 GND (power), 40 2D3 (in), 41 2D2 (in), 42 2D1 (in), 43 1D9 (in), 44 1D8 (in), 45 1D7 (in), 46 GND (power), 47 1D6 (in), 48 1D5 (in), 49 1D4 (in), 50 VCC (power), 51 1D3 (in), 52 1D2 (in), 53 GND (power), 54 1D1 (in), 55 1~{CLKEN} (in), 56 1CLK (in)

## SN54ABT821FK
designator U?
10-Bit Bus-Interface Flip-Flop with 3-State Outputs; Note: Pins No 1,8,15 and 22 are not connected.; Published: 8-Jun-2000; LatestRevisionDate: 17-Jul-2002; LatestRevisionNote: Re-released for DXP Platform.; DatasheetVersion: May-1997; PackageVersion: 1998; PackageReference: FK028C; Publisher: Altium Limited; PackageDescription: Leadless Chip Carrier; 28 Terminals; Body 11.4 x 11.4 mm; ComponentLink1Description: Manufacturer Link; ComponentLink1URL: http://www.ti.com/; ComponentLink2Description: Datasheet; ComponentLink2URL: http://www-s.ti.com/sc/ds/sn54abt821.pdf
footprint FK028C (Leadless Chip Carrier; 28 Terminals; Body 11.4 x 11.4 mm)
signal-integrity model SN54ABT821FK
pins: 2 ~{OE} (in), 3 D0 (in), 4 D1 (in), 5 D2 (in), 6 D3 (in), 7 D4 (in), 9 D5 (in), 10 D6 (in), 11 D7 (in), 12 D8 (in), 13 D9 (in), 14 GND (power), 16 CLK (in), 17 Q9 (hiz), 18 Q8 (hiz), 19 Q7 (hiz), 20 Q6 (hiz), 21 Q5 (hiz), 23 Q4 (hiz), 24 Q3 (hiz), 25 Q2 (hiz), 26 Q1 (hiz), 27 Q0 (hiz), 28 VCC (power)

## SN54ABT821JT
designator U?
10-Bit Bus-Interface Flip-Flop with 3-State Outputs; Published: 8-Jun-2000; LatestRevisionDate: 04-Mar-2005; LatestRevisionNote: Stylized 3D Model Added.; DatasheetVersion: May-1997; PackageVersion: Jan-1997; PackageReference: JT024C; Publisher: Altium Limited; PackageDescription: DIP; 24 Leads; Row Spacing 7.62 mm; Pitch 2.54 mm; Code_JEDEC: MS-001-AF; ComponentLink1Description: Manufacturer Link; ComponentLink1URL: http://www.ti.com/; ComponentLink2Description: Datasheet; ComponentLink2URL: http://www-s.ti.com/sc/ds/sn54abt821.pdf
footprint JT024C (DIP; 24 Leads; Row Spacing 7.62 mm; Pitch 2.54 mm)
3D model JT024 (DIP; 24 Leads; Row Spacing 7.62 mm; Pitch 2.54 mm)
signal-integrity model SN54ABT821JT
pins: 1 ~{OE} (in), 2 D0 (in), 3 D1 (in), 4 D2 (in), 5 D3 (in), 6 D4 (in), 7 D5 (in), 8 D6 (in), 9 D7 (in), 10 D8 (in), 11 D9 (in), 12 GND (power), 13 CLK (in), 14 Q9 (hiz), 15 Q8 (hiz), 16 Q7 (hiz), 17 Q6 (hiz), 18 Q5 (hiz), 19 Q4 (hiz), 20 Q3 (hiz), 21 Q2 (hiz), 22 Q1 (hiz), 23 Q0 (hiz), 24 VCC (power)

## SN54ABT823FK
designator U?
9-Bit Bus-Interface Flip-Flop with 3-State Outputs; Note: Pins No 1,8,15 and 22 are not connected.; Published: 8-Jun-2000; LatestRevisionDate: 17-Jul-2002; LatestRevisionNote: Re-released for DXP Platform.; DatasheetVersion: May-1997; PackageVersion: 1998; PackageReference: FK028C; Publisher: Altium Limited; PackageDescription: Leadless Chip Carrier; 28 Terminals; Body 11.4 x 11.4 mm; ComponentLink1Description: Manufacturer Link; ComponentLink1URL: http://www.ti.com/; ComponentLink2Description: Datasheet; ComponentLink2URL: http://www-s.ti.com/sc/ds/sn54abt823.pdf
footprint FK028C (Leadless Chip Carrier; 28 Terminals; Body 11.4 x 11.4 mm)
signal-integrity model SN54ABT823FK
pins: 2 ~{OE} (in), 3 D1 (in), 4 D2 (in), 5 D3 (in), 6 D4 (in), 7 D5 (in), 9 D6 (in), 10 D7 (in), 11 D8 (in), 12 D9 (in), 13 ~{CLR} (in), 14 GND (power), 16 CLK (in), 17 ~{CLKEN} (in), 18 Q9 (hiz), 19 Q8 (hiz), 20 Q7 (hiz), 21 Q6 (hiz), 23 Q5 (hiz), 24 Q4 (hiz), 25 Q3 (hiz), 26 Q2 (hiz), 27 Q1 (hiz), 28 VCC (power)

## SN54ABT823JT
designator U?
9-Bit Bus-Interface Flip-Flop with 3-State Outputs; Published: 8-Jun-2000; LatestRevisionDate: 04-Mar-2005; LatestRevisionNote: Stylized 3D Model Added.; DatasheetVersion: May-1997; PackageVersion: Jan-1997; PackageReference: JT024C; Publisher: Altium Limited; PackageDescription: DIP; 24 Leads; Row Spacing 7.62 mm; Pitch 2.54 mm; Code_JEDEC: MS-001-AF; ComponentLink1Description: Manufacturer Link; ComponentLink1URL: http://www.ti.com/; ComponentLink2Description: Datasheet; ComponentLink2URL: http://www-s.ti.com/sc/ds/sn54abt823.pdf
footprint JT024C (DIP; 24 Leads; Row Spacing 7.62 mm; Pitch 2.54 mm)
3D model JT024 (DIP; 24 Leads; Row Spacing 7.62 mm; Pitch 2.54 mm)
signal-integrity model SN54ABT823JT
pins: 1 ~{OE} (in), 2 D1 (in), 3 D2 (in), 4 D3 (in), 5 D4 (in), 6 D5 (in), 7 D6 (in), 8 D7 (in), 9 D8 (in), 10 D9 (in), 11 ~{CLR} (in), 12 GND (power), 13 CLK (in), 14 ~{CLKEN} (in), 15 Q9 (hiz), 16 Q8 (hiz), 17 Q7 (hiz), 18 Q6 (hiz), 19 Q5 (hiz), 20 Q4 (hiz), 21 Q3 (hiz), 22 Q2 (hiz), 23 Q1 (hiz), 24 VCC (power)

## SN54ABT16821WD
designator U?
20-Bit Bus-Interface Flip-Flop with 3-State Outputs; Published: 8-Jun-2000; LatestRevisionDate: 04-Mar-2005; LatestRevisionNote: Stylized 3D Model Added.; DatasheetVersion: Jan-1997; PackageVersion: Jan-1998; PackageReference: WD056; Publisher: Altium Limited; PackageDescription: DFP; 56 Leads; Body 18.8 x 9.9 mm (LxW max); Pitch 0.635 mm; Code_JEDEC: MO-146-AB; ComponentLink1Description: Manufacturer Link; ComponentLink1URL: http://www.ti.com/; ComponentLink2Description: Datasheet; ComponentLink2URL: http://www-s.ti.com/sc/ds/sn74abt16821.pdf
footprint WD056 (DFP; 56 Leads; Body 18.8 x 9.9 mm (LxW max); Pitch 0.635 mm)
3D model WD056 (DFP; 56 Leads; Body 18.8 x 9.9 mm (LxW max); Pitch 0.635 mm)
signal-integrity model SN54ABT16821WD
pins: 1 1~{OE} (in), 2 1Q1 (hiz), 3 12Q (hiz), 4 GND (power), 5 1Q3 (hiz), 6 1Q4 (hiz), 7 VCC (power), 8 1Q5 (hiz), 9 1Q6 (hiz), 10 1Q7 (hiz), 11 GND (power), 12 1Q8 (hiz), 13 1Q9 (hiz), 14 1Q10 (hiz), 15 2Q1 (hiz), 16 2Q2 (hiz), 17 2Q3 (hiz), 18 GND (power), 19 2Q4 (hiz), 20 2Q5 (hiz), 21 2Q6 (hiz), 22 VCC (power), 23 2Q7 (hiz), 24 2Q8 (hiz), 25 GND (power), 26 2Q9 (hiz), 27 2Q10 (hiz), 28 2~{OE} (in), 29 2CLK (in), 30 2D10 (in), 31 2D9 (in), 32 GND (power), 33 2D8 (in), 34 2D7 (in), 35 VCC (power), 36 2D6 (in), 37 2D5 (in), 38 2D4 (in), 39 GND (power), 40 2D3 (in), 41 2D2 (in), 42 2D1 (in), 43 1D10 (in), 44 1D9 (in), 45 1D8 (in), 46 GND (power), 47 1D7 (in), 48 1D6 (in), 49 1D5 (in), 50 VCC (power), 51 1D4 (in), 52 1D3 (in), 53 GND (power), 54 12D (in), 55 1D1 (in), 56 1CLK (in)

## SN54ABT16823WD
designator U?
18-Bit Bus-Interface Flip-Flop with 3-State Outputs; Published: 8-Jun-2000; LatestRevisionDate: 04-Mar-2005; LatestRevisionNote: Stylized 3D Model Added.; DatasheetVersion: Jan-1997; PackageVersion: Jan-1998; PackageReference: WD056; Publisher: Altium Limited; PackageDescription: DFP; 56 Leads; Body 18.8 x 9.9 mm (LxW max); Pitch 0.635 mm; Code_JEDEC: MO-146-AB; ComponentLink1Description: Manufacturer Link; ComponentLink1URL: http://www.ti.com/; ComponentLink2Description: Datasheet; ComponentLink2URL: http://www-s.ti.com/sc/ds/sn54abt16823.pdf
footprint WD056 (DFP; 56 Leads; Body 18.8 x 9.9 mm (LxW max); Pitch 0.635 mm)
3D model WD056 (DFP; 56 Leads; Body 18.8 x 9.9 mm (LxW max); Pitch 0.635 mm)
signal-integrity model SN54ABT16823WD
pins: 1 1~{CLR} (in), 2 1~{OE} (in), 3 1Q1 (hiz), 4 GND (power), 5 1Q2 (hiz), 6 1Q3 (hiz), 7 VCC (power), 8 1Q4 (hiz), 9 1Q5 (hiz), 10 1Q6 (hiz), 11 GND (power), 12 1Q7 (hiz), 13 1Q8 (hiz), 14 1Q9 (hiz), 15 2Q1 (hiz), 16 2Q2 (hiz), 17 2Q3 (hiz), 18 GND (power), 19 2Q4 (hiz), 20 2Q5 (hiz), 21 2Q6 (hiz), 22 VCC (power), 23 2Q7 (hiz), 24 2Q8 (hiz), 25 GND (power), 26 2Q9 (hiz), 27 2~{OE} (in), 28 2~{CLR} (in), 29 2CLK (in), 30 2~{CLKEN} (in), 31 2D9 (in), 32 GND (power), 33 2D8 (in), 34 2D7 (in), 35 VCC (power), 36 2D6 (in), 37 2D5 (in), 38 2D4 (in), 39 GND (power), 40 2D3 (in), 41 2D2 (in), 42 2D1 (in), 43 1D9 (in), 44 1D8 (in), 45 1D7 (in), 46 GND (power), 47 1D6 (in), 48 1D5 (in), 49 1D4 (in), 50 VCC (power), 51 1D3 (in), 52 1D2 (in), 53 GND (power), 54 1D1 (in), 55 1~{CLKEN} (in), 56 1CLK (in)

## SN54ABTH16823WD
designator U?
18-Bit Bus-Interface Flip-Flop with 3-State Outputs; Published: 8-Jun-2000; LatestRevisionDate: 04-Mar-2005; LatestRevisionNote: Stylized 3D Model Added.; DatasheetVersion: Apr-1996; PackageVersion: Jan-1998; PackageReference: WD056; Publisher: Altium Limited; PackageDescription: DFP; 56 Leads; Body 18.8 x 9.9 mm (LxW max); Pitch 0.635 mm; Code_JEDEC: MO-146-AB; ComponentLink1Description: Manufacturer Link; ComponentLink1URL: http://www.ti.com/; ComponentLink2Description: Datasheet; ComponentLink2URL: http://www-s.ti.com/sc/ds/sn74abth16823.pdf
footprint WD056 (DFP; 56 Leads; Body 18.8 x 9.9 mm (LxW max); Pitch 0.635 mm)
3D model WD056 (DFP; 56 Leads; Body 18.8 x 9.9 mm (LxW max); Pitch 0.635 mm)
pins: 1 1~{CLR} (in), 2 1~{OE} (in), 3 1Q1 (hiz), 4 GND (power), 5 1Q2 (hiz), 6 1Q3 (hiz), 7 VCC (power), 8 1Q4 (hiz), 9 1Q5 (hiz), 10 1Q6 (hiz), 11 GND (power), 12 1Q7 (hiz), 13 1Q8 (hiz), 14 1Q9 (hiz), 15 2Q1 (hiz), 16 2Q2 (hiz), 17 2Q3 (hiz), 18 GND (power), 19 2Q4 (hiz), 20 2Q5 (hiz), 21 2Q6 (hiz), 22 VCC (power), 23 2Q7 (hiz), 24 2Q8 (hiz), 25 GND (power), 26 2Q9 (hiz), 27 2~{OE} (in), 28 2~{CLR} (in), 29 2CLK (in), 30 2~{CLKEN} (in), 31 2D9 (in), 32 GND (power), 33 2D8 (in), 34 2D7 (in), 35 VCC (power), 36 2D6 (in), 37 2D5 (in), 38 2D4 (in), 39 GND (power), 40 2D3 (in), 41 2D2 (in), 42 2D1 (in), 43 1D9 (in), 44 1D8 (in), 45 1D7 (in), 46 GND (power), 47 1D6 (in), 48 1D5 (in), 49 1D4 (in), 50 VCC (power), 51 1D3 (in), 52 1D2 (in), 53 GND (power), 54 1D1 (in), 55 1~{CLKEN} (in), 56 1CLK (in)

## SN54AC564FK
designator U?
Octal D-Type Edge-Triggered Flip-Flop with 3-State Outputs; Published: 8-Jun-2000; LatestRevisionDate: 17-Jul-2002; LatestRevisionNote: Re-released for DXP Platform.; DatasheetVersion: Nov-1995; PackageVersion: 1998; PackageReference: FK020C; Publisher: Altium Limited; PackageDescription: Leadless Chip Carrier; 20 Terminals; Body 8.9 x 8.9 mm; ComponentLink1Description: Manufacturer Link; ComponentLink1URL: http://www.ti.com/; ComponentLink2Description: Datasheet; ComponentLink2URL: http://focus.ti.com/lit/ds/scas551d/scas551d.pdf
footprint FK020C (Leadless Chip Carrier; 20 Terminals; Body 8.9 x 8.9 mm)
signal-integrity model SN54AC564FK
pins: 1 ~{OE} (in), 2 D0 (in), 3 D1 (in), 4 D2 (in), 5 D3 (in), 6 D4 (in), 7 D5 (in), 8 D6 (in), 9 D7 (in), 10 GND (power), 11 CLK (in), 12 ~{O}7 (hiz), 13 ~{O}6 (hiz), 14 ~{O}5 (hiz), 15 ~{O}4 (hiz), 16 ~{O}3 (hiz), 17 ~{O}2 (hiz), 18 ~{O}1 (hiz), 19 ~{O}0 (hiz), 20 VCC (power)

## SN54AC564J
designator U?
Octal D-Type Edge-Triggered Flip-Flop with 3-State Outputs; Published: 8-Jun-2000; LatestRevisionDate: 04-Mar-2005; LatestRevisionNote: Stylized 3D Model Added.; DatasheetVersion: Nov-1995; PackageVersion: Jun-1999; PackageReference: J020C; Publisher: Altium Limited; PackageDescription: DIP; 20 Leads; Row Spacing 7.62 mm; Pitch 2.54 mm; ComponentLink1Description: Manufacturer Link; ComponentLink1URL: http://www.ti.com/; ComponentLink2Description: Datasheet; ComponentLink2URL: http://focus.ti.com/lit/ds/scas551d/scas551d.pdf
footprint J020C (DIP; 20 Leads; Row Spacing 7.62 mm; Pitch 2.54 mm)
3D model J020 (DIP; 20 Leads; Row Spacing 7.62 mm; Pitch 2.54 mm)
signal-integrity model SN54AC564J
pins: 1 ~{OE} (in), 2 D1 (in), 3 D2 (in), 4 D3 (in), 5 D4 (in), 6 D5 (in), 7 D6 (in), 8 D7 (in), 9 D8 (in), 10 GND (power), 11 CLK (in), 12 ~{Q}8 (hiz), 13 ~{Q}7 (hiz), 14 ~{Q}6 (hiz), 15 ~{Q}5 (hiz), 16 ~{Q}4 (hiz), 17 ~{Q}3 (hiz), 18 ~{Q}2 (hiz), 19 ~{Q}1 (hiz), 20 VCC (power)

## SN54AC564W
designator U?
Octal D-Type Edge-Triggered Flip-Flop with 3-State Outputs; Published: 8-Jun-2000; LatestRevisionDate: 04-Mar-2005; LatestRevisionNote: Stylized 3D Model Added.; DatasheetVersion: Nov-1995; PackageVersion: Jan-1995; PackageReference: W020; Publisher: Altium Limited; PackageDescription: DFP; 20 Leads; Body 13.7 x 7.6 mm (LxW max); Pitch 1.27 mm; ComponentLink1Description: Manufacturer Link; ComponentLink1URL: http://www.ti.com/; ComponentLink2Description: Datasheet; ComponentLink2URL: http://focus.ti.com/lit/ds/scas551d/scas551d.pdf
footprint W020 (DFP; 20 Leads; Body 13.7 x 7.6 mm (LxW max); Pitch 1.27 mm)
3D model W020 (DFP; 20 Leads; Body 13.7 x 7.6 mm (LxW max); Pitch 1.27 mm)
signal-integrity model SN54AC564W
pins: 1 ~{OE} (in), 2 D1 (in), 3 D2 (in), 4 D3 (in), 5 D4 (in), 6 D5 (in), 7 D6 (in), 8 D7 (in), 9 D8 (in), 10 GND (power), 11 CLK (in), 12 ~{Q}8 (hiz), 13 ~{Q}7 (hiz), 14 ~{Q}6 (hiz), 15 ~{Q}5 (hiz), 16 ~{Q}4 (hiz), 17 ~{Q}3 (hiz), 18 ~{Q}2 (hiz), 19 ~{Q}1 (hiz), 20 VCC (power)

## SN54ACT564FK
designator U?
Octal D-Type Edge-Triggered Flip-Flop with 3-State Outputs; Published: 8-Jun-2000; LatestRevisionDate: 17-Jul-2002; LatestRevisionNote: Re-released for DXP Platform.; DatasheetVersion: Nov-1995; PackageVersion: 1998; PackageReference: FK020C; Publisher: Altium Limited; PackageDescription: Leadless Chip Carrier; 20 Terminals; Body 8.9 x 8.9 mm; ComponentLink1Description: Manufacturer Link; ComponentLink1URL: http://www.ti.com/; ComponentLink2Description: Datasheet; ComponentLink2URL: http://www-s.ti.com/sc/ds/sn74act564.pdf
footprint FK020C (Leadless Chip Carrier; 20 Terminals; Body 8.9 x 8.9 mm)
signal-integrity model SN54ACT564FK
pins: 1 ~{OE} (in), 2 D0 (in), 3 D1 (in), 4 D2 (in), 5 D3 (in), 6 D4 (in), 7 D5 (in), 8 D6 (in), 9 D7 (in), 10 GND (power), 11 CLK (in), 12 ~{O}7 (hiz), 13 ~{O}6 (hiz), 14 ~{O}5 (hiz), 15 ~{O}4 (hiz), 16 ~{O}3 (hiz), 17 ~{O}2 (hiz), 18 ~{O}1 (hiz), 19 ~{O}0 (hiz), 20 VCC (power)

## SN54ACT564J
designator U?
Octal D-Type Edge-Triggered Flip-Flop with 3-State Outputs; Published: 8-Jun-2000; LatestRevisionDate: 04-Mar-2005; LatestRevisionNote: Stylized 3D Model Added.; DatasheetVersion: Nov-1995; PackageVersion: Jun-1999; PackageReference: J020C; Publisher: Altium Limited; PackageDescription: DIP; 20 Leads; Row Spacing 7.62 mm; Pitch 2.54 mm; ComponentLink1Description: Manufacturer Link; ComponentLink1URL: http://www.ti.com/; ComponentLink2Description: Datasheet; ComponentLink2URL: http://www-s.ti.com/sc/ds/sn74act564.pdf
footprint J020C (DIP; 20 Leads; Row Spacing 7.62 mm; Pitch 2.54 mm)
3D model J020 (DIP; 20 Leads; Row Spacing 7.62 mm; Pitch 2.54 mm)
signal-integrity model SN54ACT564J
pins: 1 ~{OE} (in), 2 D1 (in), 3 D2 (in), 4 D3 (in), 5 D4 (in), 6 D5 (in), 7 D6 (in), 8 D7 (in), 9 D8 (in), 10 GND (power), 11 CLK (in), 12 ~{Q}8 (hiz), 13 ~{Q}7 (hiz), 14 ~{Q}6 (hiz), 15 ~{Q}5 (hiz), 16 ~{Q}4 (hiz), 17 ~{Q}3 (hiz), 18 ~{Q}2 (hiz), 19 ~{Q}1 (hiz), 20 VCC (power)

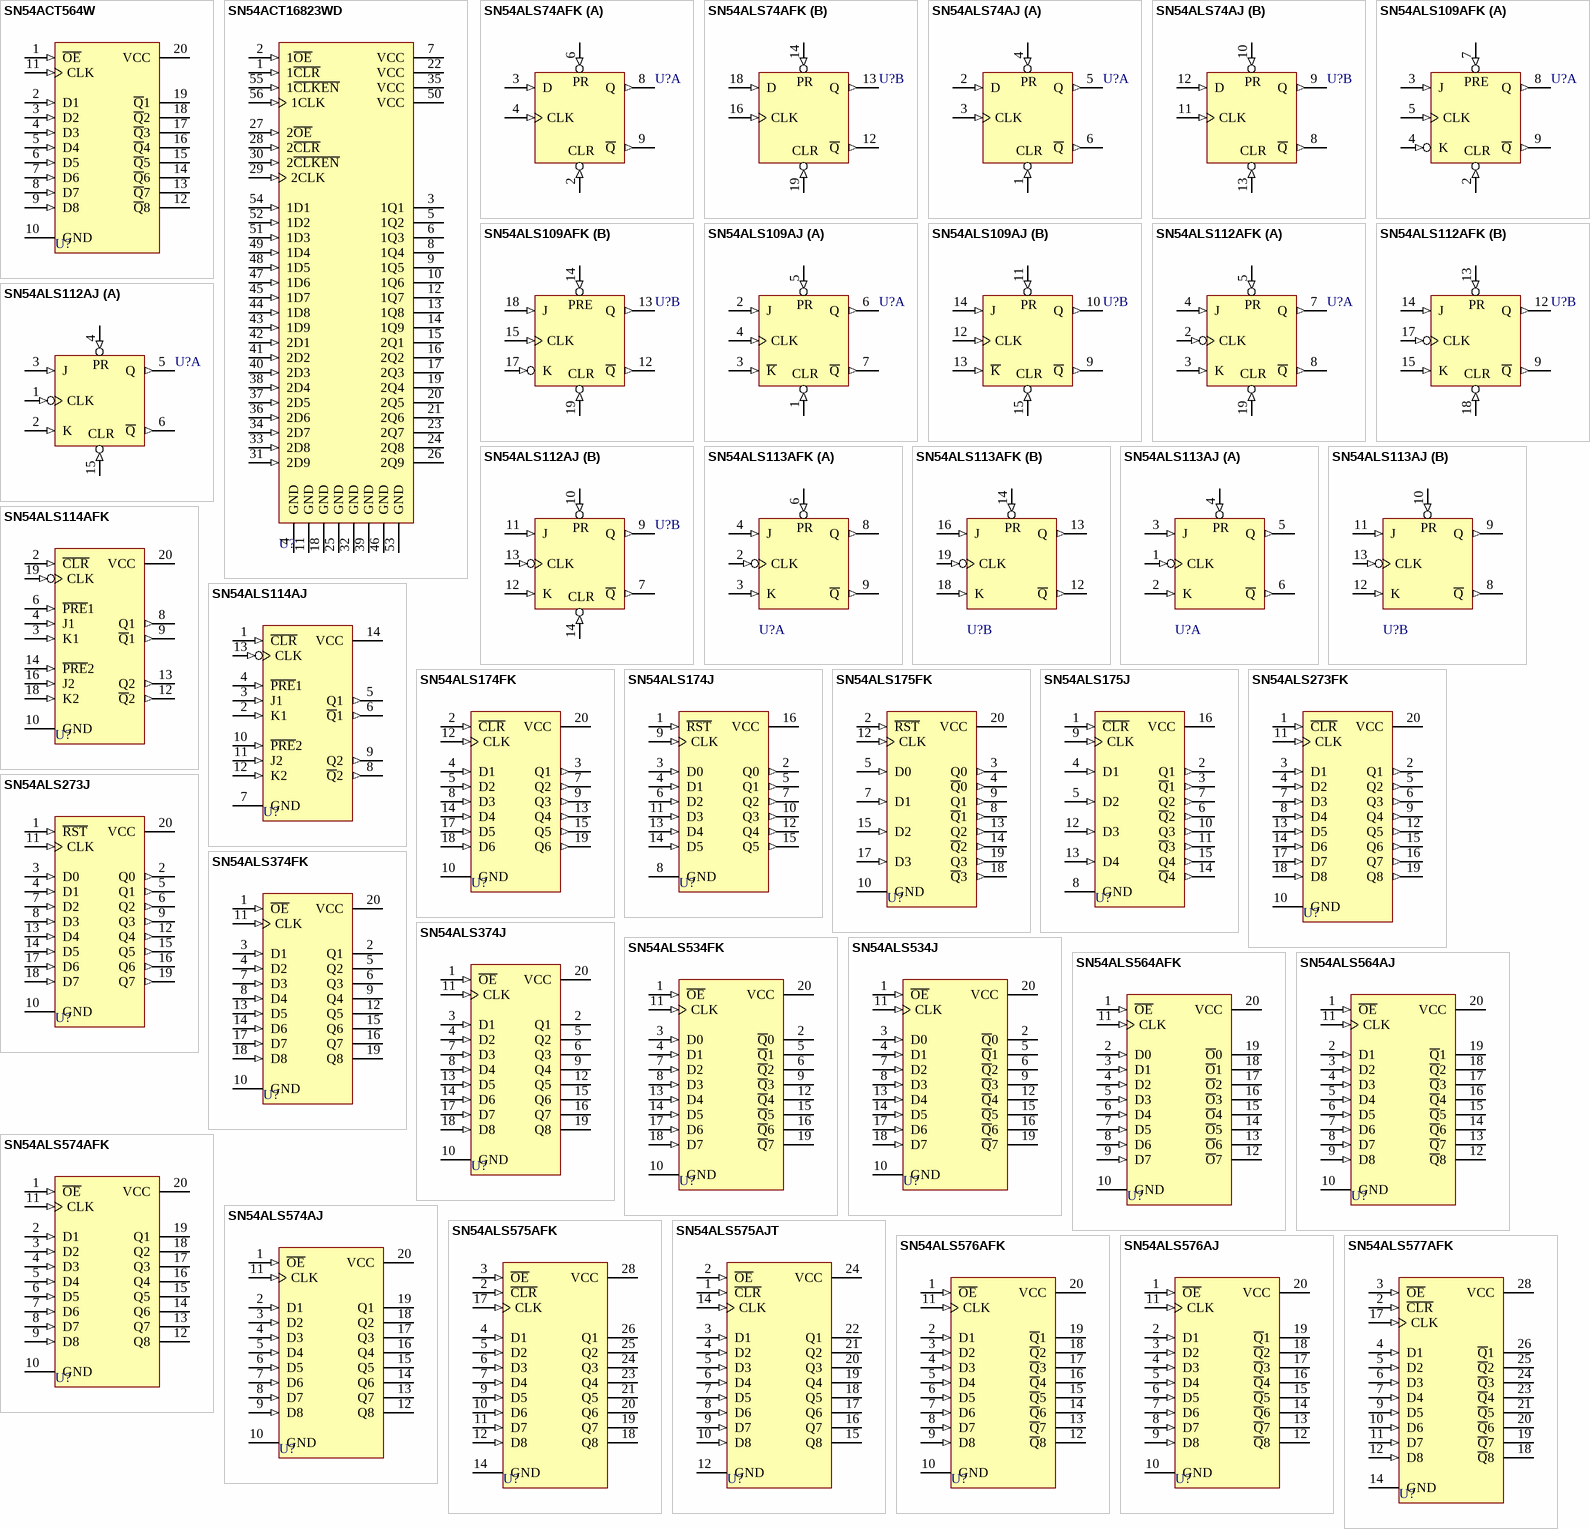
[diagram p5: symbols SN54ACT564W to SN54ALS577AFK]

## SN54ACT564W
designator U?
Octal D-Type Edge-Triggered Flip-Flop with 3-State Outputs; Published: 8-Jun-2000; LatestRevisionDate: 04-Mar-2005; LatestRevisionNote: Stylized 3D Model Added.; DatasheetVersion: Nov-1995; PackageVersion: Jan-1995; PackageReference: W020; Publisher: Altium Limited; PackageDescription: DFP; 20 Leads; Body 13.7 x 7.6 mm (LxW max); Pitch 1.27 mm; ComponentLink1Description: Manufacturer Link; ComponentLink1URL: http://www.ti.com/; ComponentLink2Description: Datasheet; ComponentLink2URL: http://www-s.ti.com/sc/ds/sn74act564.pdf
footprint W020 (DFP; 20 Leads; Body 13.7 x 7.6 mm (LxW max); Pitch 1.27 mm)
3D model W020 (DFP; 20 Leads; Body 13.7 x 7.6 mm (LxW max); Pitch 1.27 mm)
signal-integrity model SN54ACT564W
pins: 1 ~{OE} (in), 2 D1 (in), 3 D2 (in), 4 D3 (in), 5 D4 (in), 6 D5 (in), 7 D6 (in), 8 D7 (in), 9 D8 (in), 10 GND (power), 11 CLK (in), 12 ~{Q}8 (hiz), 13 ~{Q}7 (hiz), 14 ~{Q}6 (hiz), 15 ~{Q}5 (hiz), 16 ~{Q}4 (hiz), 17 ~{Q}3 (hiz), 18 ~{Q}2 (hiz), 19 ~{Q}1 (hiz), 20 VCC (power)

## SN54ACT16823WD
designator U?
18-Bit Bus-Interface Flip-Flop with 3-State Outputs; Published: 8-Jun-2000; LatestRevisionDate: 04-Mar-2005; LatestRevisionNote: Stylized 3D Model Added.; DatasheetVersion: Apr-1996; PackageVersion: Jan-1998; PackageReference: WD056; Publisher: Altium Limited; PackageDescription: DFP; 56 Leads; Body 18.8 x 9.9 mm (LxW max); Pitch 0.635 mm; Code_JEDEC: MO-146-AB; ComponentLink1Description: Manufacturer Link; ComponentLink1URL: http://www.ti.com/
footprint WD056 (DFP; 56 Leads; Body 18.8 x 9.9 mm (LxW max); Pitch 0.635 mm)
3D model WD056 (DFP; 56 Leads; Body 18.8 x 9.9 mm (LxW max); Pitch 0.635 mm)
signal-integrity model SN54ACT16823WD
pins: 1 1~{CLR} (in), 2 1~{OE} (in), 3 1Q1 (hiz), 4 GND (power), 5 1Q2 (hiz), 6 1Q3 (hiz), 7 VCC (power), 8 1Q4 (hiz), 9 1Q5 (hiz), 10 1Q6 (hiz), 11 GND (power), 12 1Q7 (hiz), 13 1Q8 (hiz), 14 1Q9 (hiz), 15 2Q1 (hiz), 16 2Q2 (hiz), 17 2Q3 (hiz), 18 GND (power), 19 2Q4 (hiz), 20 2Q5 (hiz), 21 2Q6 (hiz), 22 VCC (power), 23 2Q7 (hiz), 24 2Q8 (hiz), 25 GND (power), 26 2Q9 (hiz), 27 2~{OE} (in), 28 2~{CLR} (in), 29 2CLK (in), 30 2~{CLKEN} (in), 31 2D9 (in), 32 GND (power), 33 2D8 (in), 34 2D7 (in), 35 VCC (power), 36 2D6 (in), 37 2D5 (in), 38 2D4 (in), 39 GND (power), 40 2D3 (in), 41 2D2 (in), 42 2D1 (in), 43 1D9 (in), 44 1D8 (in), 45 1D7 (in), 46 GND (power), 47 1D6 (in), 48 1D5 (in), 49 1D4 (in), 50 VCC (power), 51 1D3 (in), 52 1D2 (in), 53 GND (power), 54 1D1 (in), 55 1~{CLKEN} (in), 56 1CLK (in)

## SN54ALS74AFK
designator U?
Dual D-Type Positive-Edge-Triggered Flip-Flop with Clear and Preset; Note: Pins No 1,5,7,11,15 and 17 are not connected.; Published: 8-Jun-2000; LatestRevisionDate: 17-Jul-2002; LatestRevisionNote: Re-released for DXP Platform.; DatasheetVersion: May-1986; PackageVersion: 1998; PackageReference: FK020D; Publisher: Altium Limited; PackageDescription: Leadless Chip Carrier; 20 Terminals; Body 8.9 x 8.9 mm; ComponentLink1Description: Manufacturer Link; ComponentLink1URL: http://www.ti.com/
footprint FK020D (Leadless Chip Carrier; 20 Terminals; Body 8.9 x 8.9 mm)
signal-integrity model SN54ALS74AFK
pins on every part: 10 GND (power) hidden to GND, 20 VCC (power) hidden to VCC
part A pins: 2 CLR (in), 3 D (in), 4 CLK (in), 6 PR (in), 8 Q (out), 9 ~{Q} (out)
part B pins: 12 ~{Q} (out), 13 Q (out), 14 PRE (in), 16 CLK (in), 18 D (in), 19 CLR (in)

## SN54ALS74AJ
designator U?
Dual D-Type Positive-Edge-Triggered Flip-Flop with Clear and Preset; Published: 8-Jun-2000; LatestRevisionDate: 04-Mar-2005; LatestRevisionNote: Stylized 3D Model Added.; DatasheetVersion: Sep-1987; PackageVersion: Jun-1999; PackageReference: J014; Publisher: Altium Limited; PackageDescription: DIP; 14 Leads; Row Spacing 7.62 mm; Pitch 2.54 mm; ComponentLink1Description: Manufacturer Link; ComponentLink1URL: http://www.ti.com/; ComponentLink2Description: Datasheet; ComponentLink2URL: http://www-s.ti.com/sc/ds/sn54als74a.pdf
footprint J014 (DIP; 14 Leads; Row Spacing 7.62 mm; Pitch 2.54 mm)
3D model J014 (DIP; 14 Leads; Row Spacing 7.62 mm; Pitch 2.54 mm)
signal-integrity model SN54ALS74AJ
pins on every part: 7 GND (power) hidden to GND, 14 VCC (power) hidden to VCC
part A pins: 1 CLR (in), 2 D (in), 3 CLK (in), 4 PR (in), 5 Q (out), 6 ~{Q} (out)
part B pins: 8 ~{Q} (out), 9 Q (out), 10 PR (in), 11 CLK (in), 12 D (in), 13 CLR (in)

## SN54ALS109AFK
designator U?
Dual J-K Positive-Edge-Triggered Flip-Flop with Clear and Preset; Note: Pins No 1, 6,11 and 16 are not connected.; Published: 8-Jun-2000; LatestRevisionDate: 17-Jul-2002; LatestRevisionNote: Re-released for DXP Platform.; DatasheetVersion: May-1986; PackageVersion: 1998; PackageReference: FK020D; Publisher: Altium Limited; PackageDescription: Leadless Chip Carrier; 20 Terminals; Body 8.9 x 8.9 mm; ComponentLink1Description: Manufacturer Link; ComponentLink1URL: http://www.ti.com/
footprint FK020D (Leadless Chip Carrier; 20 Terminals; Body 8.9 x 8.9 mm)
signal-integrity model SN54ALS109AFK
pins on every part: 10 GND (power) hidden to GND, 20 VCC (power) hidden to VCC
part A pins: 2 CLR (in), 3 J (in), 4 K (in), 5 CLK (in), 7 PRE (in), 8 Q (out), 9 ~{Q} (out)
part B pins: 12 ~{Q} (out), 13 Q (out), 14 PRE (in), 15 CLK (in), 17 K (in), 18 J (in), 19 CLR (in)

## SN54ALS109AJ
designator U?
Dual J-K Positive-Edge-Triggered Flip-Flop with Clear and Preset; Published: 8-Jun-2000; LatestRevisionDate: 04-Mar-2005; LatestRevisionNote: Stylized 3D Model Added.; DatasheetVersion: Aug-1995; PackageVersion: Jun-1999; PackageReference: J016; Publisher: Altium Limited; PackageDescription: DIP; 16 Leads; Row Spacing 7.62 mm; Pitch 2.54 mm; ComponentLink1Description: Manufacturer Link; ComponentLink1URL: http://www.ti.com/; ComponentLink2Description: Datasheet; ComponentLink2URL: http://www-s.ti.com/sc/ds/sn54als109a.pdf
footprint J016 (DIP; 16 Leads; Row Spacing 7.62 mm; Pitch 2.54 mm)
3D model J016 (DIP; 16 Leads; Row Spacing 7.62 mm; Pitch 2.54 mm)
signal-integrity model SN54ALS109AJ
pins on every part: 8 GND (power) hidden to GND, 16 VCC (power) hidden to VCC
part A pins: 1 CLR (in), 2 J (in), 3 ~{K} (in), 4 CLK (in), 5 PR (in), 6 Q (out), 7 ~{Q} (out)
part B pins: 9 ~{Q} (out), 10 Q (out), 11 PR (in), 12 CLK (in), 13 ~{K} (in), 14 J (in), 15 CLR (in)

## SN54ALS112AFK
designator U?
Dual J-K Negative-Edge-Triggered Flip-Flop with Clear and Preset; Note: Pins No 1,6,11 and 16 are not connected.; Published: 8-Jun-2000; LatestRevisionDate: 17-Jul-2002; LatestRevisionNote: Re-released for DXP Platform.; DatasheetVersion: May-1986; PackageVersion: 1998; PackageReference: FK020D; Publisher: Altium Limited; PackageDescription: Leadless Chip Carrier; 20 Terminals; Body 8.9 x 8.9 mm; ComponentLink1Description: Manufacturer Link; ComponentLink1URL: http://www.ti.com/
footprint FK020D (Leadless Chip Carrier; 20 Terminals; Body 8.9 x 8.9 mm)
signal-integrity model SN54ALS112AFK
pins on every part: 10 GND (power) hidden to GND, 20 VCC (power) hidden to VCC
part A pins: 2 CLK (in), 3 K (in), 4 J (in), 5 PR (in), 7 Q (out), 8 ~{Q} (out), 19 CLR (in)
part B pins: 9 ~{Q} (out), 12 Q (out), 13 PR (in), 14 J (in), 15 K (in), 17 CLK (in), 18 CLR (in)

## SN54ALS112AJ
designator U?
Dual J-K Negative-Edge-Triggered Flip-Flop with Clear and Preset; Published: 8-Jun-2000; LatestRevisionDate: 04-Mar-2005; LatestRevisionNote: Stylized 3D Model Added.; DatasheetVersion: Dec-1994; PackageVersion: Jun-1999; PackageReference: J016; Publisher: Altium Limited; PackageDescription: DIP; 16 Leads; Row Spacing 7.62 mm; Pitch 2.54 mm; ComponentLink1Description: Manufacturer Link; ComponentLink1URL: http://www.ti.com/; ComponentLink2Description: Datasheet; ComponentLink2URL: http://www-s.ti.com/sc/ds/sn74als112a.pdf
footprint J016 (DIP; 16 Leads; Row Spacing 7.62 mm; Pitch 2.54 mm)
3D model J016 (DIP; 16 Leads; Row Spacing 7.62 mm; Pitch 2.54 mm)
signal-integrity model SN54ALS112AJ
pins on every part: 8 GND (power) hidden to GND, 16 VCC (power) hidden to VCC
part A pins: 1 CLK (in), 2 K (in), 3 J (in), 4 PR (in), 5 Q (out), 6 ~{Q} (out), 15 CLR (in)
part B pins: 7 ~{Q} (out), 9 Q (out), 10 PR (in), 11 J (in), 12 K (in), 13 CLK (in), 14 CLR (in)